# Altium footprint library pads.PcbLib: 1 footprints
Each footprint in its own frame and in the unit in brackets; x right, y up, seen from the top. Pads: shape width x height; smd on the part's side, far side on the other; paste and mask are expansions set on the pad; w line width, h text height; cw(c..) or ccw(c..) is an arc to the next point about the centre after c.
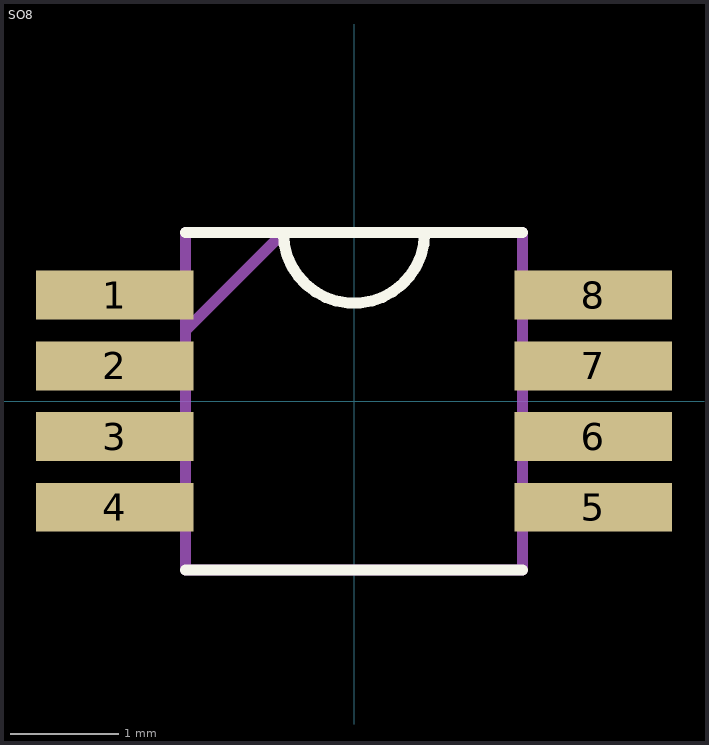
[diagram p0: the footprint, top view; thin cyan lines are the x and y axes]

## SO8 [mm]
pads (8):
  rect 1.45x0.45 smd paste+0 mask+0.05: 1(-2.2,0.975) 2(-2.2,0.325) 3(-2.2,-0.325) 4(-2.2,-0.975) 5(2.2,-0.975) 6(2.2,-0.325) 7(2.2,0.325) 8(2.2,0.975)
Top Overlay:
  lines w0.102: -1.55,-1.55 1.55,-1.55 ; -1.55,1.55 1.55,1.55 ; -0.65,1.55 ccw(c0,1.55) 0.65,1.55
Mechanical 13:
  lines w0.102: -1.55,0.65 -0.65,1.55 ; -1.55,-1.55 1.55,-1.55 1.55,1.55 -1.55,1.55 -1.55,-1.55
3D body "MSOP8.step": height 1.1, standoff 0, extent -2.469,-1.55 2.469,1.55
3D body: height 2, standoff 0.5, extent -1.3,2.6 1.95,3.9